# Altium schematic symbol library D_GEN_AC.SchLib: 1 symbol
Pins are listed as number, name and electrical type; pins without a type are passive.

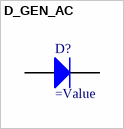
[diagram p0: symbol D_GEN_AC]

## D_GEN_AC
designator D?
Diode
pins: A, C